# Altium footprint library SOT23-3P95_240X100L50X42N.PcbLib: 1 footprints
Each footprint in its own frame and in the unit in brackets; x right, y up, seen from the top. Pads: shape width x height; smd on the part's side, far side on the other; paste and mask are expansions set on the pad; w line width, h text height; cw(c..) or ccw(c..) is an arc to the next point about the centre after c.
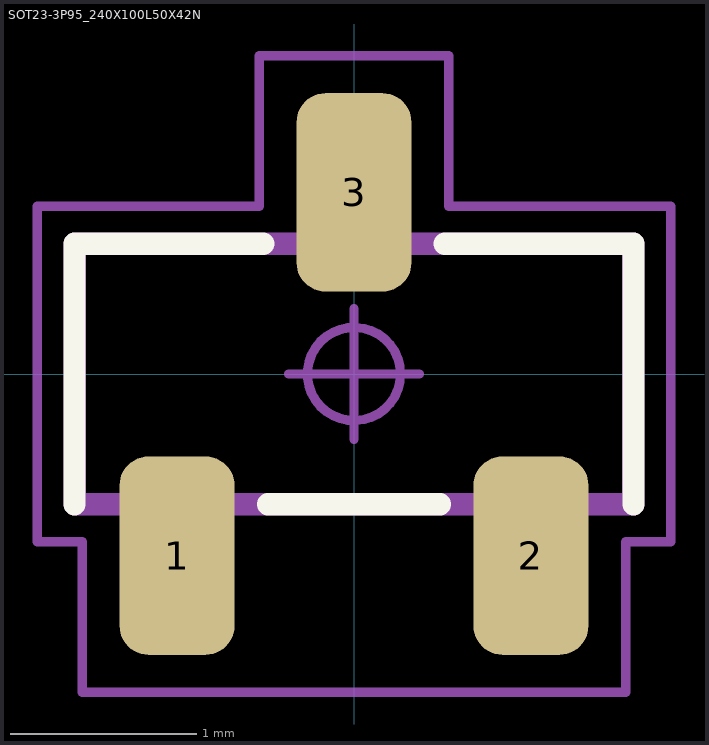
[diagram p0: the footprint, top view; thin cyan lines are the x and y axes]

## SOT23-3P95_240X100L50X42N [mm] "Small Outline Transistor, SOT-23 Type, 0.95 mm pitch; 3 pin, 2.90 mm L X 1.30 mm W X 1.00 mm H body"
height 1
pads (3):
  rrect50% 0.617x1.065 smd: 1(-0.95,-0.975) 2(0.95,-0.975) 3(0,0.975)
Top Overlay:
  lines w0.12: -1.5,-0.7 -1.5,0.7 -0.488,0.7 ; -0.462,-0.7 0.462,-0.7 ; 0.488,0.7 1.5,0.7 1.5,-0.7
Mechanical 3:
  lines w0.12: -1.5,-0.7 1.5,-0.7 1.5,0.7 -1.5,0.7 -1.5,-0.7
Mechanical 5:
  lines w0.025: -1.162,-1.2 -1.162,-0.7 -0.737,-0.7 -0.737,-1.2 -1.162,-1.2 ; -0.212,0.7 -0.212,1.2 0.212,1.2 0.212,0.7 -0.212,0.7 ; 0.737,-1.2 0.737,-0.7 1.162,-0.7 1.162,-1.2 0.737,-1.2
Mechanical 7:
  circle w0.05: c0,0 r0.25
  lines w0.025: -1.45,-0.65 1.45,-0.65 1.45,0.65 -1.45,0.65 -1.45,-0.65
  lines w0.05: -0.35,0 0.35,0 ; 0,-0.35 0,0.35 ; -1.7,-0.9 -1.458,-0.9 -1.458,-1.708 1.458,-1.708 1.458,-0.9 1.7,-0.9 1.7,0.9 0.508,0.9 0.508,1.708 -0.508,1.708 -0.508,0.9 -1.7,0.9 -1.7,-0.9
Mechanical 9:
  text ".Designator" at -2.438,2.176 h0.51
3D body "SOT23-3P95_240X100L50X42.STEP": height 1, standoff 0, extent -1.45,-1.2 1.45,1.2